# EAGLE library part RXM-900-HP3 (library My_Parts)
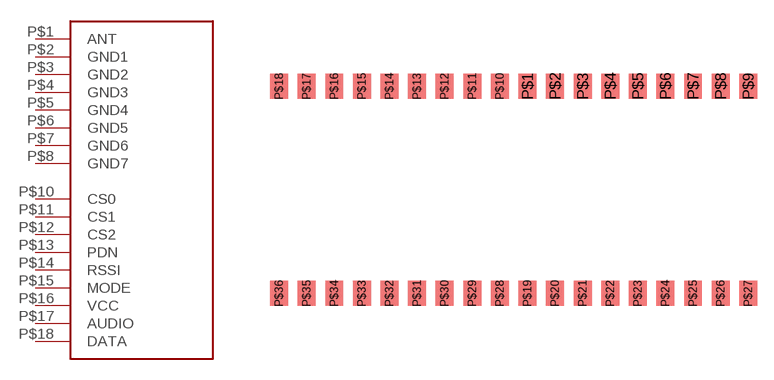
[diagram p2: symbol with the pads of RX-SMD; footprint RX-SMD]

Designator prefix -

## RXM-900-HP3  [RX-SMD]
P$1  ANT
P$2  GND1
P$3  GND2
P$4  GND3
P$5  GND4
P$6  GND5
P$7  GND6
P$8  GND7
P$10  CS0
P$11  CS1
P$12  CS2
P$13  PDN
P$14  RSSI
P$15  MODE
P$16  VCC
P$17  AUDIO
P$18  DATA

## Footprint RX-SMD (pad centres in mm)
smd 1.651 x 2.286: P$1 1.27,9.525; P$2 3.81,9.525; P$3 6.35,9.525; P$4 8.89,9.525; P$5 11.43,9.525; P$6 13.97,9.525; P$7 16.51,9.525; P$8 19.05,9.525; P$9 21.59,9.525; P$10 -1.27,9.525; P$11 -3.81,9.525; P$12 -6.35,9.525; P$13 -8.89,9.525; P$14 -11.43,9.525; P$15 -13.97,9.525; P$16 -16.51,9.525; P$17 -19.05,9.525; P$18 -21.59,9.525; P$19 1.27,-9.525; P$20 3.81,-9.525; P$21 6.35,-9.525; P$22 8.89,-9.525; P$23 11.43,-9.525; P$24 13.97,-9.525; P$25 16.51,-9.525; P$26 19.05,-9.525; P$27 21.59,-9.525; P$28 -1.27,-9.525; P$29 -3.81,-9.525; P$30 -6.35,-9.525; P$31 -8.89,-9.525; P$32 -11.43,-9.525; P$33 -13.97,-9.525; P$34 -16.51,-9.525; P$35 -19.05,-9.525; P$36 -21.59,-9.525